# Altium schematic symbol library Connectors.SchLib: 21 symbols
Pins are listed as number, name and electrical type; pins without a type are passive.

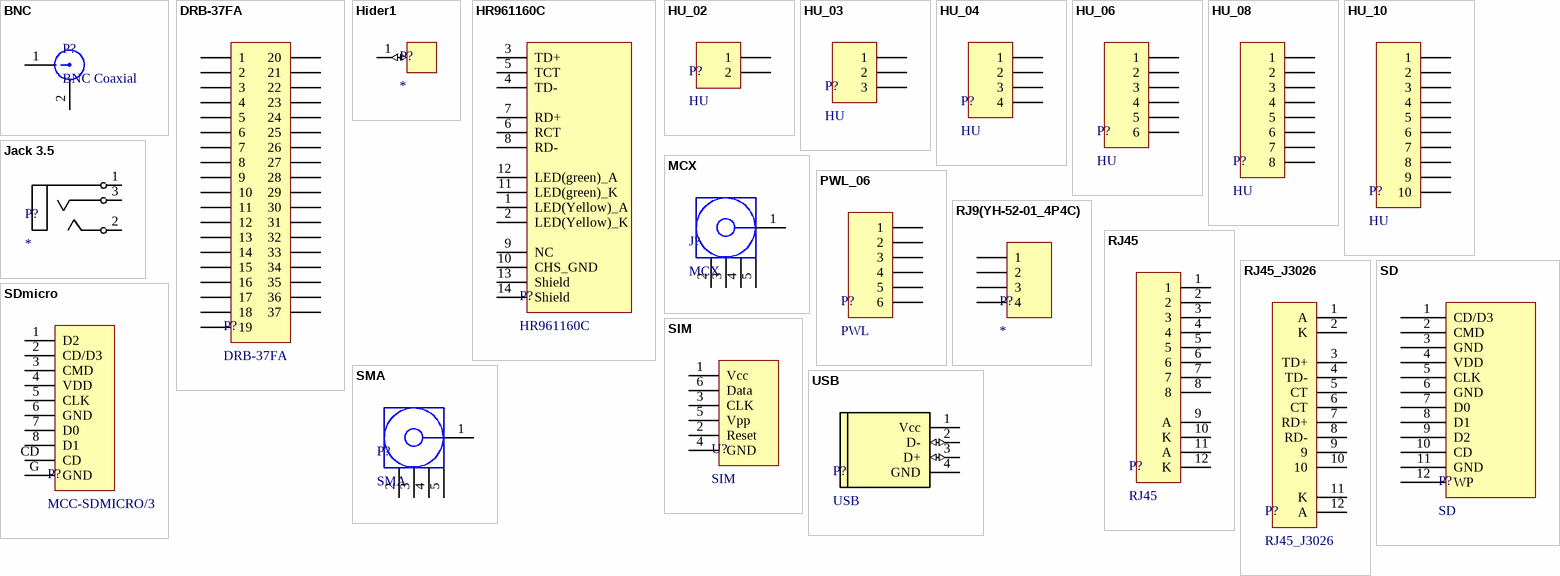
[diagram p0: symbols BNC to USB]

## BNC
designator P?, comment BNC Coaxial
MULTICOMP - 13-60-2 DGZ - RF COAXIAL, BNC, RIGHT ANGLE JACK, 50OHM; Impedance: 50; Connector Mounting: PCB Mount; Connector Mounting Orientation: PC Board; Contact Resistance: 1.5; External Width: 14.5; External Depth: 34.7; External Length / Height: 15.6; Insulation Resistance: 5000; Connector Type: BNC Coaxial; Connector Body Style: Right Angle Jack; Height: 15.6; Coaxial Type: 50; ComponentLink1URL: http://www.farnell.com/cad/1661793.pdf; ComponentLink1Description: http://www.farnell.com/cad/1661793.pdf
footprint BNC
pins: 1, 2

## DRB-37FA
designator P?
Connector variant: 7,2mm standard; Connector: socket; B dimension: 63mm; Category: D-Sub connectors; Number of pins: 37; Operating temperature: -55...105°C; C dimension: 69mm; A dimension: 55mm
footprint DSUB1.385-2H37FA
pins: 1, 2, 3, 4, 5, 6, 7, 8, 9, 10, 11, 12, 13, 14, 15, 16, 17, 18, 19, 20, 21, 22, 23, 24, 25, 26, 27, 28, 29, 30, 31, 32, 33, 34, 35, 36, 37

## Hider1
designator P?
footprint Pin_1_d1mm_smoll
footprint Pin_1_d2mm
pins: 1 (io)

## HR961160C
designator P?
Ethernet 10/100BASE-T, LED
footprint RJ-45
pins: 1 LED(Yellow)_A, 2 LED(Yellow)_K, 3 TD+, 4 TD-, 5 TCT, 6 RCT, 7 RD+, 8 RD-, 9 NC, 10 CHS_GND, 11 LED(green)_K, 12 LED(green)_A, 13 Shield, 14 Shield

## HU_02
designator P?, comment HU
Header, 2-Pin,; Rated voltage: 250V; Contacts pitch: 2.54mm; Rated current: 3A; Number of pins: 2; B dimension: 10.7mm; A dimension: 7.62mm
footprint HU_02
pins: 1, 2

## HU_03
designator P?, comment HU
Header, 3-Pin,; Rated voltage: 250V; Contacts pitch: 2.54mm; Rated current: 3A; Number of pins: 4; B dimension: 10.7mm; A dimension: 7.62mm
footprint HU_03
pins: 1, 2, 3

## HU_04
designator P?, comment HU
Header, 4-Pin,; Rated voltage: 250V; Contacts pitch: 2.54mm; Rated current: 3A; Number of pins: 4; B dimension: 10.7mm; A dimension: 7.62mm
footprint HU_04
pins: 1, 2, 3, 4

## HU_06
designator P?, comment HU
Header, 6-Pin,; Rated voltage: 250V; Contacts pitch: 2.54mm; Rated current: 3A; Number of pins: 6; B dimension: 10.7mm; A dimension: 7.62mm
footprint HU_06
pins: 1, 2, 3, 4, 5, 6

## HU_08
designator P?, comment HU
Header, 8-Pin,; Rated voltage: 250V; Contacts pitch: 2.54mm; Rated current: 3A; Number of pins: 8; B dimension: 10.7mm; A dimension: 7.62mm
footprint HU_08
pins: 1, 2, 3, 4, 5, 6, 7, 8

## HU_10
designator P?, comment HU
Header, 8-Pin,; Rated voltage: 250V; Contacts pitch: 2.54mm; Rated current: 3A; Number of pins: 8; B dimension: 10.7mm; A dimension: 7.62mm
footprint HU_10
pins: 1, 2, 3, 4, 5, 6, 7, 8, 9, 10

## Jack 3.5
designator P?
footprint Jack_SJ-3524-SMT
footprint Jeack_KLS1-TSJ3.5-009
pins: 1 0, 2 1, 3 1

## MCX
designator J?
CONN MMCX JACK STR 50 OHM PCB; Contact Termination: Solder; Body Material: Brass; Body Finish: Gold; Voltage Rating: 170V; Connector Type: Jack, Female Socket; Impedance: 50 Ohm; Frequency - Max: 6GHz; Connector Style: MMCX; Housing Color: Gold; Center Contact Plating: Gold
footprint MCX
pins: 1, 2, 3, 4, 5

## PWL_06
designator P?, comment PWL
Header, 6-Pin,; Rated voltage: 250V; Contacts pitch: 2.54mm; Rated current: 3A; Number of pins: 6; B dimension: 10.7mm; A dimension: 7.62mm
footprint PWL_06
pins: 1, 2, 3, 4, 5, 6

## RJ9(YH-52-01_4P4C)
designator P?
footprint RJ9 (YH-55-01_4P4C)
pins: 1, 2, 3, 4

## RJ45
designator P?
footprint RJ-45a
footprint RJ-45a_KLS12-107-8P
pins: 1, 2, 3, 4, 5, 6, 7, 8, 9 A, 10 K, 11 A, 12 K

## RJ45_J3026
designator P?
ComponentLink2Description: Datasheet; ComponentLink2URL: http://www.mouser.com/ds/2/336/-180197.pdf
footprint RJ-45b
pins: 1 A, 2 K, 3 TD+, 4 TD-, 5 CT, 6 CT, 7 RD+, 8 RD-, 9, 10, 11 K, 12 A

## SD
designator P?
footprint sd
pins: 1 CD/D3, 2 CMD, 3 GND, 4 VDD, 5 CLK, 6 GND, 7 D0, 8 D1, 9 D2, 10 CD, 11 GND, 12 WP

## SDmicro
designator P?, comment MCC-SDMICRO/3
MCC-SDMICRO; Manufacturer Part Number: 112J-TDAR-R01; Electrical mounting: SMT; Connector variant: push-push; Contact plating: gold plated; Category: Card connectors; Card type: SD Micro; Supplier Part Number: MCC-SDMICRO/3; ComponentLink1Description: Datasheet; ComponentLink1URL: http://www.kosmodrom.com.ua/pdf/MCC-SDMICRO_2.pdf
footprint SDmicro
pins: 1 D2, 2 CD/D3, 3 CMD, 4 VDD, 5 CLK, 6 GND, 7 D0, 8 D1, CD, G GND

## SIM
designator U?
ComponentLink1Description: Shop; ComponentLink1URL: http://www.rcscomponents.kiev.ua/product/%D0%E0%E7%FA%E5%EC%20%E4%EB%FF%20SIM-%EA%E0%F0%F2%FB%20%28KLS1-SIM-013-6P%20%96%20KLS%29.html
footprint SIM
pins: 1 Vcc, 2 Reset, 3 CLK, 4 GND, 5 Vpp, 6 Data

## SMA
designator P?
CONN MMCX JACK STR 50 OHM PCB; Contact Termination: Solder; Body Material: Brass; Body Finish: Gold; Voltage Rating: 170V; Connector Type: Jack, Female Socket; Impedance: 50 Ohm; Frequency - Max: 6GHz; Connector Style: MMCX; Housing Color: Gold; Center Contact Plating: Gold
footprint SMA
pins: 1, 2, 3, 4, 5

## USB
designator P?
footprint USB_B-TYPE
footprint USB_B_SMD
footprint USB_A_Type
footprint USB_microB
pins: 1 Vcc, 2 D- (io), 3 D+ (io), 4 GND